# EAGLE library part ADP2303ADRZ-5.0-R7 (library analog-devices)
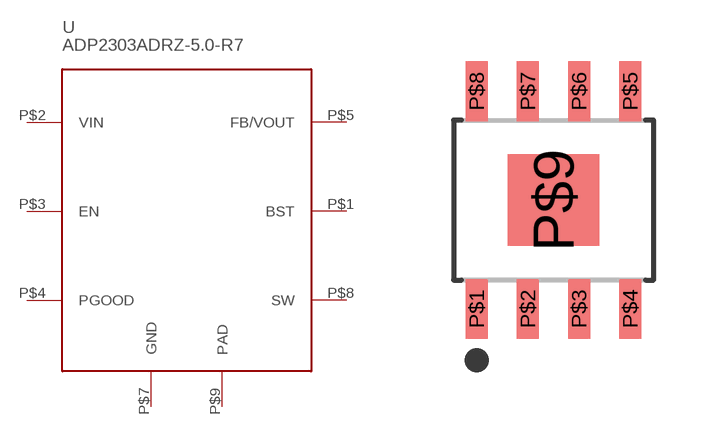
[diagram p151: symbol with the pads of RD-8-1; footprint RD-8-1]

Designator prefix U

## ADP2303ADRZ-5.0-R7  [RD-8-1]
P$1  BST
P$2  VIN
P$3  EN
P$4  PGOOD
P$5  FB/VOUT
P$7  GND
P$8  SW
P$9  PAD

## Footprint RD-8-1 (pad centres in mm)
smd 0.55 x 1.49: P$1 -1.92,-2.72; P$2 -0.64,-2.72; P$3 0.64,-2.72; P$4 1.92,-2.72; P$5 1.92,2.72; P$6 0.64,2.72; P$7 -0.64,2.72; P$8 -1.92,2.72
smd 2.29 x 2.29: P$9 0,0